# Altium footprint library Draft.PcbLib: 2 footprints
Each footprint in its own frame and in the unit in brackets; x right, y up, seen from the top. Pads: shape width x height; smd on the part's side, far side on the other; paste and mask are expansions set on the pad; w line width, h text height; cw(c..) or ccw(c..) is an arc to the next point about the centre after c.
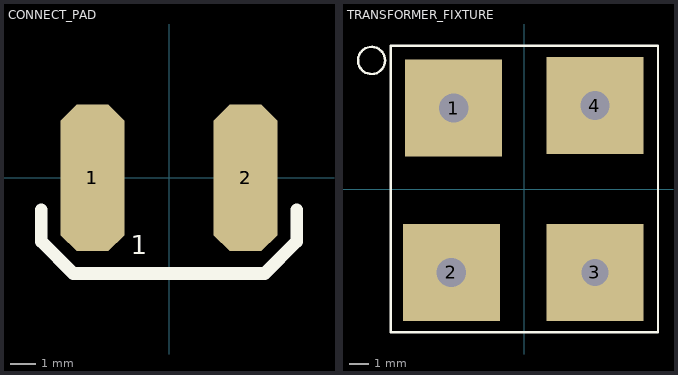
[diagram p0: the footprints below, top view; thin cyan lines are the x and y axes]

## CONNECT_PAD [mil]
pads (4):
  oct 100x230 smd: 1(-120,0) 2(120,0)
  oct 100x230 on Top Solder: 1(-120,0) 2(120,0)
Top Overlay:
  lines w20: -200,-50 -200,-100 -150,-150 0,-150 150,-150 200,-100 200,-50
  text "1" at -60,-120 h30

## TRANSFORMER_FIXTURE [mil]
pads (4):
  rect 200x200 hole 60: 1(-145.63,167.01) 2(-150.63,-172.01) 4(145.63,172.01)
  rect 200x200 hole 55.12: 3(145.63,-172.01)
Top Overlay:
  circle w5: c-315,265 r27.96
  lines w5: -275.59,-295.28 275.59,-295.28 275.59,295.28 -275.59,295.28 -275.59,-295.28